# Altium footprint library LED PTH 5mm.PcbLib: 5 footprints
Each footprint in its own frame and in the unit in brackets; x right, y up, seen from the top. Pads: shape width x height; smd on the part's side, far side on the other; paste and mask are expansions set on the pad; w line width, h text height; cw(c..) or ccw(c..) is an arc to the next point about the centre after c.
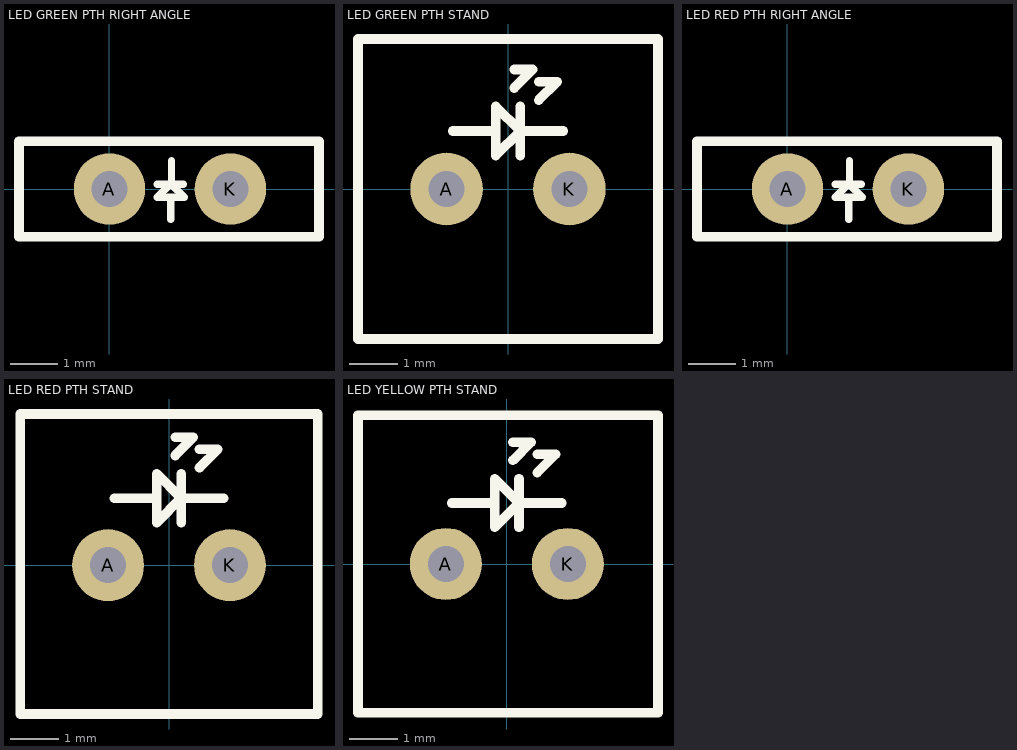
[diagram p0: the footprints below, top view; thin cyan lines are the x and y axes]

## LED GREEN PTH RIGHT ANGLE [mm] "Green 527nm LED Indication - Discrete 3.2V Radial"
pads (2):
  round 1.5 hole 0.75: A(0,0) K(2.54,0)
Top Overlay:
  lines w0.152: 1,0.1 1.55,0.1 ; 1.275,0.1 1,-0.175 1.575,-0.175 1.3,0.1 1.3,0.6 ; 1.288,-0.638 1.288,-0.175
  lines w0.2: -1.9,-1 4.4,-1 4.4,1 4,1 -1.9,1 -1.9,-1
3D body "LED Green 5mm.step": height 6.56, standoff -2.44, extent -1.7,-10.47 3.95,0.252

## LED GREEN PTH STAND [mm] "Green 527nm LED Indication - Discrete 3.2V Radial"
pads (2):
  round 1.5 hole 0.75: A(-1.27,0) K(1.27,0)
Top Overlay:
  lines w0.2: -1.143,1.2 -0.254,1.2 ; 0.127,2.089 0.508,2.47 0.127,2.47 ; 0.254,0.692 0.254,1.708 ; 0.635,1.835 1.016,2.216 0.635,2.216 ; 1.143,1.2 0.254,1.2 ; 0.254,1.2 -0.254,1.708 -0.254,0.692 0.254,1.2 ; -3.1,-3.1 -3.1,3.1 3.1,3.1 3.1,-3.1 -3.1,-3.1
3D body "LED 5mm Green Stand.step": height 8.96, standoff -6.49, extent -3,-3 2.5,3

## LED RED PTH RIGHT ANGLE [mm] "Red 623nm LED Indication - Discrete 1.9V Radial"
pads (2):
  round 1.5 hole 0.75: A(0,0) K(2.54,0)
Top Overlay:
  lines w0.152: 1,0.1 1.55,0.1 ; 1.275,0.1 1,-0.175 1.575,-0.175 1.3,0.1 1.3,0.6 ; 1.288,-0.638 1.288,-0.175
  lines w0.2: -1.9,-1 4.4,-1 4.4,1 4,1 -1.9,1 -1.9,-1
3D body "LED Red 5mm.step": height 6.3, standoff -2.7, extent -1.738,-10.468 3.912,0.254

## LED RED PTH STAND [mm] "Red 623nm LED Indication - Discrete 1.9V Radial"
pads (2):
  round 1.5 hole 0.75: A(-1.27,0) K(1.27,0)
Top Overlay:
  lines w0.2: -1.143,1.397 -0.254,1.397 ; 0.127,2.286 0.508,2.667 0.127,2.667 ; 0.254,0.889 0.254,1.905 ; 0.635,2.032 1.016,2.413 0.635,2.413 ; 1.143,1.397 0.254,1.397 ; 0.254,1.397 -0.254,0.889 -0.254,1.905 0.254,1.397 ; -3.099,-3.1 3.099,-3.1 3.099,3.15 -3.099,3.15 -3.099,-3.1
3D body "LED 5mm Red Stand.step": height 8.96, standoff -6.49, extent -3,-2.975 2.5,3.025

## LED YELLOW PTH STAND [mm] "Red 623nm LED Indication - Discrete 1.9V Radial"
pads (2):
  round 1.5 hole 0.75: A(-1.27,0) K(1.27,0)
Top Overlay:
  lines w0.2: -1.143,1.27 -0.254,1.27 ; 0.127,2.159 0.508,2.54 0.127,2.54 ; 0.254,0.762 0.254,1.778 ; 0.635,1.905 1.016,2.286 0.635,2.286 ; 1.143,1.27 0.254,1.27 ; 0.254,1.27 -0.254,0.762 -0.254,1.778 0.254,1.27 ; -3.1,-3.1 3.15,-3.1 3.15,3.1 -3.1,3.1 -3.1,-3.1
3D body "LED 5mm Yellow Stand.step": height 8.96, standoff -6.49, extent -3,-2.975 2.5,3.025